# Altium schematic symbol library TRANSISTOR-DIODE.SchLib: 14 symbols
Pins are listed as number, name and electrical type; pins without a type are passive.

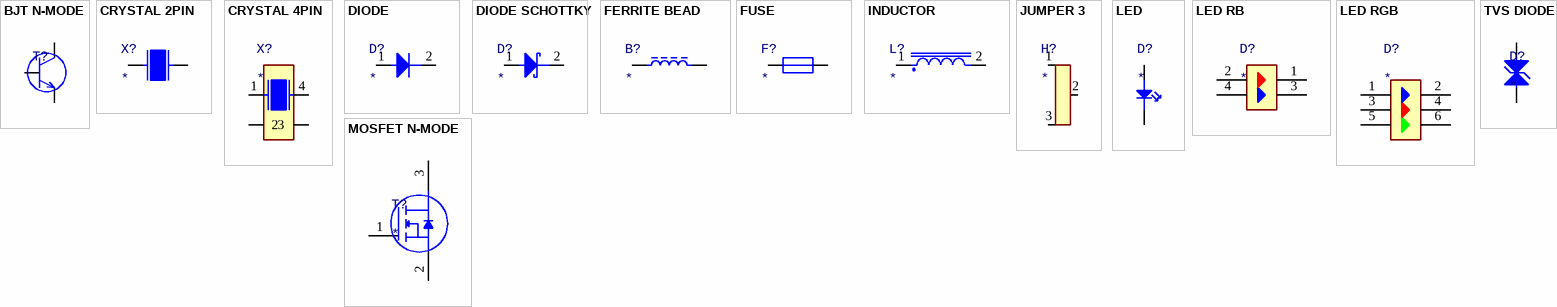
[diagram p0: symbols BJT N-MODE to TVS DIODE]

## BJT N-MODE
designator T?
pins: 1, 2, 3

## CRYSTAL 2PIN
designator X?
pins: 1, 2

## CRYSTAL 4PIN
designator X?
pins: 1, 2, 3, 4

## DIODE
designator D?
pins: 1 A, 2 K

## DIODE SCHOTTKY
designator D?
pins: 1 A, 2 K

## FERRITE BEAD
designator B?
pins: 1, 2

## FUSE
designator F?
pins: 1, 2

## INDUCTOR
designator L?
pins: 1, 2

## JUMPER 3
designator H?
pins: 1, 2, 3

## LED
designator D?
pins: 1, 2

## LED RB
designator D?
pins: 1, 2, 3, 4

## LED RGB
designator D?
pins: 1, 2, 3, 4, 5, 6

## MOSFET N-MODE
designator T?
pins: 1 G, 2 S, 3 D

## TVS DIODE
designator D?
pins: 1, 2